# Altium schematic symbol library UKT1H0R1MDD1TD.SchLib: 2 symbols
Pins are listed as number, name and electrical type; pins without a type are passive.

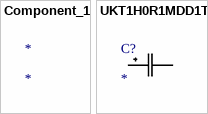
[diagram p0: symbols Component_1 to UKT1H0R1MDD1TD]

## Component_1
designator *

## UKT1H0R1MDD1TD
designator C?
No Description Available; Mfr_Name: Nichicon
footprint CAP_UEP_5X11_NCH
pins: 1, 2